# EAGLE library part ML6428 (library FMS64XX (contains all FMS derivatives))
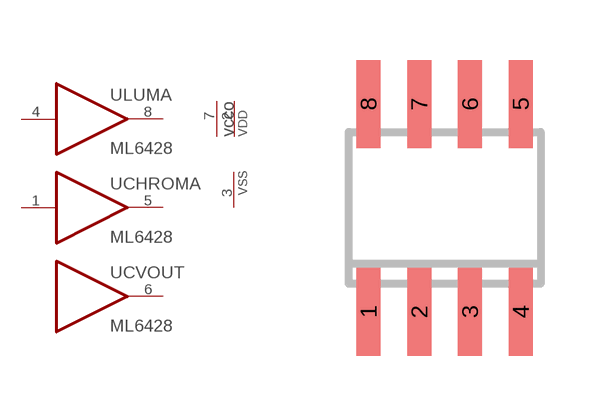
[diagram p3: symbol with the pads of SOIC8; footprint SOIC8]

Designator prefix -; gates LUMA=BUFFER CHROMA=BUFFER CVOUT=BUFFERNOIN G$1=PWRN_VCCO

## ML6428  [SOIC8]
1  CHROMA:I
2  G$1:VDD  pwr
3  G$1:VSS  pwr
4  LUMA:I
5  CHROMA:O  out
6  CVOUT:O  out
7  G$1:VCCO  pwr
8  LUMA:O  out

## Footprint SOIC8 (pad centres in mm)
Small Outline IC
smd 0.6 x 2.2: 1 -1.905,-2.6; 2 -0.635,-2.6; 3 0.635,-2.6; 4 1.905,-2.6; 5 1.905,2.6; 6 0.635,2.6; 7 -0.635,2.6; 8 -1.905,2.6